# Altium footprint library L-KLS1-TF-003-H1.85-R.PcbLib: 1 footprints
Each footprint in its own frame and in the unit in brackets; x right, y up, seen from the top. Pads: shape width x height; smd on the part's side, far side on the other; paste and mask are expansions set on the pad; w line width, h text height; cw(c..) or ccw(c..) is an arc to the next point about the centre after c.
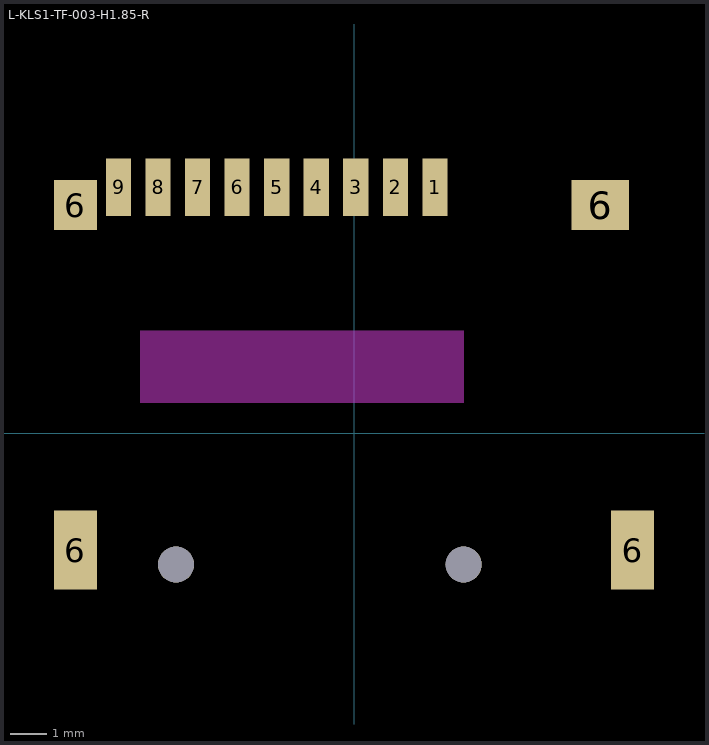
[diagram p0: the footprint, top view; thin cyan lines are the x and y axes]

## L-KLS1-TF-003-H1.85-R [mm]
pads (15):
  rect 0.7x1.6 smd: 1(2.25,6.85) 2(1.15,6.85) 3(0.05,6.85) 4(-1.05,6.85) 5(-2.15,6.85) 6(-3.25,6.85) 7(-4.35,6.85) 8(-5.45,6.85) 9(-6.55,6.85)
  rect 1.2x2.2 smd: 6(-7.75,-3.25) 6(7.75,-3.25)
  rect 1.2x1.4 smd: 6(-7.75,6.35)
  rect 1.6x1.4 smd: 6(6.85,6.35)
  round 1 hole 1 unplated: ""(-4.95,-3.65) ""(3.05,-3.65)
Top Layer keep-out:
  region: -5.95,2.85 3.05,2.85 3.05,0.85 -5.95,0.85
3D body "L-KLS1-TF-003-H1.85-R.step": height 1.9, standoff -0.55, extent -8.05,-7.65 8.05,7.353
3D body "SD.step": height 1.71, standoff 0.82, extent -6.88,-9.85 4.55,5.39